# Altium footprint library 2023960207.PcbLib: 1 footprints
Each footprint in its own frame and in the unit in brackets; x right, y up, seen from the top. Pads: shape width x height; smd on the part's side, far side on the other; paste and mask are expansions set on the pad; w line width, h text height; cw(c..) or ccw(c..) is an arc to the next point about the centre after c.
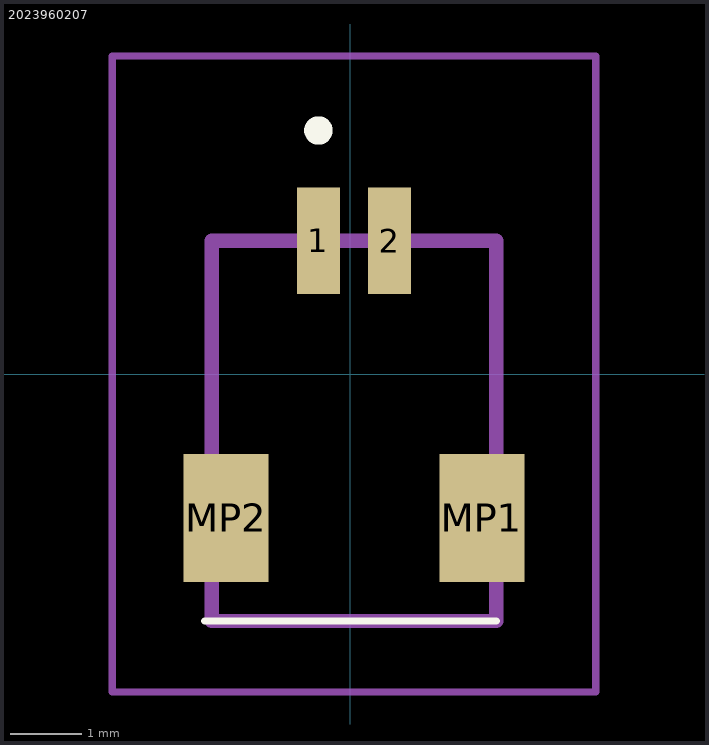
[diagram p0: the footprint, top view; thin cyan lines are the x and y axes]

## 2023960207 [mm]
pads (4):
  rect 0.6x1.5 smd: 1(-0.45,1.875) 2(0.55,1.875)
  rect 1.2x1.8 smd: MP1(1.85,-2.025) MP2(-1.75,-2.025)
Top Overlay:
  lines w0.1: -2.05,-3.475 2.05,-3.475
  lines w0.3: -0.45,3.375 -0.45,3.375 ; -0.45,3.375 ccw(c-0.45,3.425) -0.45,3.475 ; -0.45,3.375 cw(c-0.45,3.425) -0.45,3.475 ; -0.45,3.475 -0.45,3.475
Mechanical 15:
  lines w0.2: -1.95,-3.475 2.05,-3.475 2.05,1.875 -1.95,1.875 -1.95,-3.475
Mechanical 20:
  lines w0.1: -3.35,-4.475 3.45,-4.475 3.45,4.475 -3.35,4.475 -3.35,-4.475